# Altium footprint library 共阳极LED.PcbLib: 1 footprints
Each footprint in its own frame and in the unit in brackets; x right, y up, seen from the top. Pads: shape width x height; smd on the part's side, far side on the other; paste and mask are expansions set on the pad; w line width, h text height; cw(c..) or ccw(c..) is an arc to the next point about the centre after c.
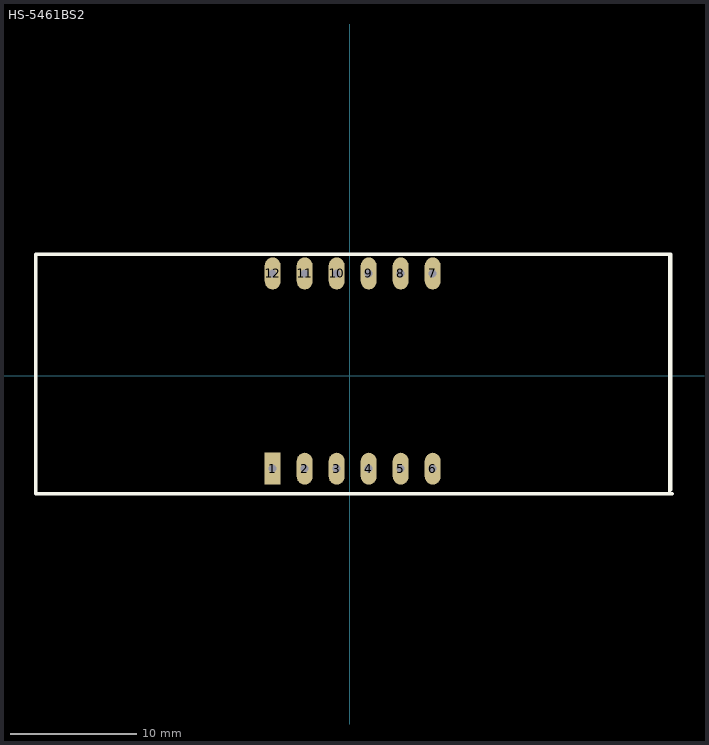
[diagram p0: the footprint, top view; thin cyan lines are the x and y axes]

## HS-5461BS2 [mil]
pads (12):
  rect 50x100 hole 25: 1(-240,-290)
  oval 50x100 hole 25: 2(-140,-290) 3(-40,-290) 4(60,-290) 5(160,-290) 6(260,-290) 7(260,320) 8(160,320) 9(60,320) 10(-40,320) 11(-140,320) 12(-240,320)
TopOverlay:
  lines w10: 1000,-368.03 1000,375.75 ; 1004.25,-355.75 1004.25,380 -980,380 -980,-368.03 1008.03,-368.03